# Altium footprint library Header.PcbLib: 112 footprints (part 5 of 7)
Each footprint in its own frame and in the unit in brackets; x right, y up, seen from the top. Pads: shape width x height; smd on the part's side, far side on the other; paste and mask are expansions set on the pad; w line width, h text height; cw(c..) or ccw(c..) is an arc to the next point about the centre after c.
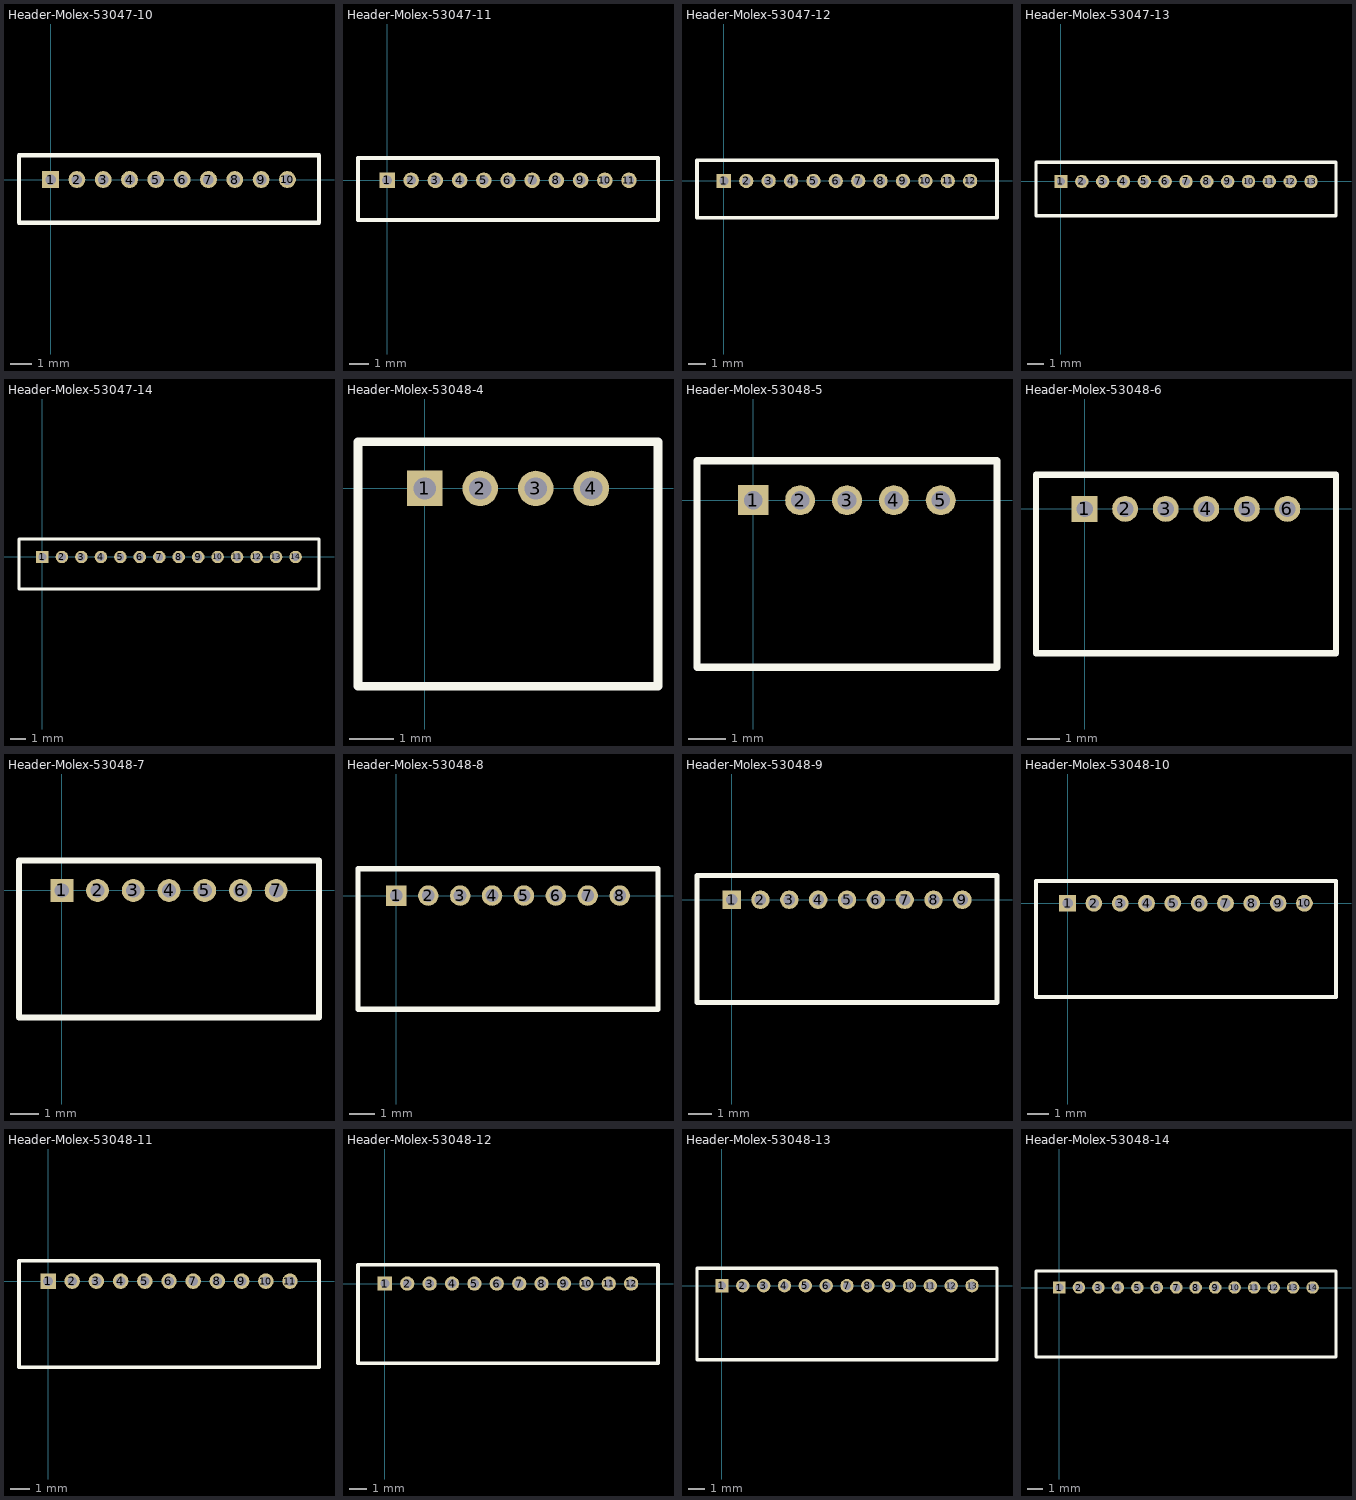
[diagram p4: the footprints below, top view; thin cyan lines are the x and y axes]

## Header-Molex-53047-10 [mm] "Molex PicoBlade 53047 Header, 10 Pin"
height 4.2
pads (10):
  rect 0.8x0.8 hole 0.5: 1(0,0)
  round 0.8 hole 0.5: 2(1.25,0) 3(2.5,0) 4(3.75,0) 5(5,0) 6(6.25,0) 7(7.5,0) 8(8.75,0) 9(10,0) 10(11.25,0)
Top Overlay:
  lines w0.2: -1.5,-2.05 12.75,-2.05 12.75,1.15 -1.5,1.15 -1.5,-2.05
3D body: height 3.6, standoff 0, extent 11.1,-0.3 11.4,0.3
3D body: height 1.4, standoff 0, extent -1.5,-2.05 12.75,1.15
3D body: height 4.2, standoff 0, extent -1.5,0.75 12.75,1.15
3D body: height 3.6, standoff 0, extent -1.5,-2.05 12.75,-1.65
3D body: height 4.2, standoff 0, extent -1.5,-2.05 -0.9,1.15
3D body: height 4.2, standoff 0, extent 12.15,-2.075 12.75,1.125
3D body: height 3.6, standoff 0, extent 9.85,-0.3 10.15,0.3
3D body: height 3.6, standoff 0, extent 8.6,-0.3 8.9,0.3
3D body: height 3.6, standoff 0, extent 7.35,-0.3 7.65,0.3
3D body: height 3.6, standoff 0, extent 6.1,-0.3 6.4,0.3
3D body: height 3.6, standoff 0, extent 4.85,-0.3 5.15,0.3
3D body: height 3.6, standoff 0, extent 3.6,-0.3 3.9,0.3
3D body: height 3.6, standoff 0, extent 2.35,-0.3 2.65,0.3
3D body: height 3.6, standoff 0, extent 1.1,-0.3 1.4,0.3
3D body: height 3.6, standoff 0, extent -0.15,-0.3 0.15,0.3

## Header-Molex-53047-11 [mm] "Molex PicoBlade 53047 Header, 11 Pin"
height 4.2
pads (11):
  rect 0.8x0.8 hole 0.5: 1(0,0)
  round 0.8 hole 0.5: 2(1.25,0) 3(2.5,0) 4(3.75,0) 5(5,0) 6(6.25,0) 7(7.5,0) 8(8.75,0) 9(10,0) 10(11.25,0) 11(12.5,0)
Top Overlay:
  lines w0.2: -1.5,-2.05 -1.5,1.15 14,1.15 14,-2.05 -1.5,-2.05
3D body: height 3.6, standoff 0, extent 12.35,-0.3 12.65,0.3
3D body: height 3.6, standoff 0, extent 11.1,-0.3 11.4,0.3
3D body: height 1.4, standoff 0, extent -1.5,-2.05 14,1.15
3D body: height 4.2, standoff 0, extent -1.5,0.75 14,1.15
3D body: height 3.6, standoff 0, extent -1.5,-2.05 14,-1.65
3D body: height 4.2, standoff 0, extent -1.5,-2.05 -0.9,1.15
3D body: height 4.2, standoff 0, extent 13.4,-2.075 14,1.125
3D body: height 3.6, standoff 0, extent 9.85,-0.3 10.15,0.3
3D body: height 3.6, standoff 0, extent 8.6,-0.3 8.9,0.3
3D body: height 3.6, standoff 0, extent 7.35,-0.3 7.65,0.3
3D body: height 3.6, standoff 0, extent 6.1,-0.3 6.4,0.3
3D body: height 3.6, standoff 0, extent 4.85,-0.3 5.15,0.3
3D body: height 3.6, standoff 0, extent 3.6,-0.3 3.9,0.3
3D body: height 3.6, standoff 0, extent 2.35,-0.3 2.65,0.3
3D body: height 3.6, standoff 0, extent 1.1,-0.3 1.4,0.3
3D body: height 3.6, standoff 0, extent -0.15,-0.3 0.15,0.3

## Header-Molex-53047-12 [mm] "Molex PicoBlade 53047 Header, 12 Pin"
height 4.2
pads (12):
  rect 0.8x0.8 hole 0.5: 1(0,0)
  round 0.8 hole 0.5: 2(1.25,0) 3(2.5,0) 4(3.75,0) 5(5,0) 6(6.25,0) 7(7.5,0) 8(8.75,0) 9(10,0) 10(11.25,0) 11(12.5,0) 12(13.75,0)
Top Overlay:
  lines w0.2: -1.5,-2.05 -1.5,1.15 15.25,1.15 15.25,-2.05 -1.5,-2.05
3D body: height 3.6, standoff 0, extent -0.15,-0.3 0.15,0.3
3D body: height 3.6, standoff 0, extent 1.1,-0.3 1.4,0.3
3D body: height 3.6, standoff 0, extent 2.35,-0.3 2.65,0.3
3D body: height 3.6, standoff 0, extent 3.6,-0.3 3.9,0.3
3D body: height 3.6, standoff 0, extent 4.85,-0.3 5.15,0.3
3D body: height 3.6, standoff 0, extent 6.1,-0.3 6.4,0.3
3D body: height 3.6, standoff 0, extent 7.35,-0.3 7.65,0.3
3D body: height 3.6, standoff 0, extent 8.6,-0.3 8.9,0.3
3D body: height 3.6, standoff 0, extent 9.85,-0.3 10.15,0.3
3D body: height 4.2, standoff 0, extent 14.65,-2.075 15.25,1.125
3D body: height 4.2, standoff 0, extent -1.5,-2.05 -0.9,1.15
3D body: height 3.6, standoff 0, extent -1.5,-2.05 15.25,-1.65
3D body: height 4.2, standoff 0, extent -1.5,0.75 15.25,1.15
3D body: height 1.4, standoff 0, extent -1.5,-2.05 15.25,1.15
3D body: height 3.6, standoff 0, extent 11.1,-0.3 11.4,0.3
3D body: height 3.6, standoff 0, extent 12.35,-0.3 12.65,0.3
3D body: height 3.6, standoff 0, extent 13.6,-0.3 13.9,0.3

## Header-Molex-53047-13 [mm] "Molex PicoBlade 53047 Header, 13 Pin"
height 4.2
pads (13):
  rect 0.8x0.8 hole 0.5: 1(0,0)
  round 0.8 hole 0.5: 2(1.25,0) 3(2.5,0) 4(3.75,0) 5(5,0) 6(6.25,0) 7(7.5,0) 8(8.75,0) 9(10,0) 10(11.25,0) 11(12.5,0) 12(13.75,0) 13(15,0)
Top Overlay:
  lines w0.2: -1.5,-2.05 16.5,-2.05 16.5,1.15 -1.5,1.15 -1.5,-2.05
3D body: height 3.6, standoff 0, extent -0.15,-0.3 0.15,0.3
3D body: height 3.6, standoff 0, extent 1.1,-0.3 1.4,0.3
3D body: height 3.6, standoff 0, extent 2.35,-0.3 2.65,0.3
3D body: height 3.6, standoff 0, extent 3.6,-0.3 3.9,0.3
3D body: height 3.6, standoff 0, extent 4.85,-0.3 5.15,0.3
3D body: height 3.6, standoff 0, extent 6.1,-0.3 6.4,0.3
3D body: height 3.6, standoff 0, extent 7.35,-0.3 7.65,0.3
3D body: height 3.6, standoff 0, extent 8.6,-0.3 8.9,0.3
3D body: height 3.6, standoff 0, extent 9.85,-0.3 10.15,0.3
3D body: height 4.2, standoff 0, extent 15.9,-2.075 16.5,1.125
3D body: height 4.2, standoff 0, extent -1.5,-2.05 -0.9,1.15
3D body: height 3.6, standoff 0, extent -1.5,-2.05 16.5,-1.65
3D body: height 4.2, standoff 0, extent -1.5,0.75 16.5,1.15
3D body: height 1.4, standoff 0, extent -1.5,-2.05 16.5,1.15
3D body: height 3.6, standoff 0, extent 11.1,-0.3 11.4,0.3
3D body: height 3.6, standoff 0, extent 12.35,-0.3 12.65,0.3
3D body: height 3.6, standoff 0, extent 13.6,-0.3 13.9,0.3
3D body: height 3.6, standoff 0, extent 14.85,-0.3 15.15,0.3

## Header-Molex-53047-14 [mm] "Molex PicoBlade 53047 Header, 14 Pin"
height 4.2
pads (14):
  rect 0.8x0.8 hole 0.5: 1(0,0)
  round 0.8 hole 0.5: 2(1.25,0) 3(2.5,0) 4(3.75,0) 5(5,0) 6(6.25,0) 7(7.5,0) 8(8.75,0) 9(10,0) 10(11.25,0) 11(12.5,0) 12(13.75,0) 13(15,0) 14(16.25,0)
Top Overlay:
  lines w0.2: -1.5,-2.05 -1.5,1.15 17.75,1.15 17.75,-2.05 -1.5,-2.05
3D body: height 3.6, standoff 0, extent 16.1,-0.3 16.4,0.3
3D body: height 3.6, standoff 0, extent 14.85,-0.3 15.15,0.3
3D body: height 3.6, standoff 0, extent 13.6,-0.3 13.9,0.3
3D body: height 3.6, standoff 0, extent 12.35,-0.3 12.65,0.3
3D body: height 3.6, standoff 0, extent 11.1,-0.3 11.4,0.3
3D body: height 3.6, standoff 0, extent -0.15,-0.3 0.15,0.3
3D body: height 3.6, standoff 0, extent 1.1,-0.3 1.4,0.3
3D body: height 3.6, standoff 0, extent 2.35,-0.3 2.65,0.3
3D body: height 3.6, standoff 0, extent 3.6,-0.3 3.9,0.3
3D body: height 3.6, standoff 0, extent 4.85,-0.3 5.15,0.3
3D body: height 3.6, standoff 0, extent 6.1,-0.3 6.4,0.3
3D body: height 3.6, standoff 0, extent 7.35,-0.3 7.65,0.3
3D body: height 3.6, standoff 0, extent 8.6,-0.3 8.9,0.3
3D body: height 3.6, standoff 0, extent 9.85,-0.3 10.15,0.3
3D body: height 4.2, standoff 0, extent 17.15,-2.075 17.75,1.125
3D body: height 4.2, standoff 0, extent -1.5,-2.05 -0.9,1.15
3D body: height 3.6, standoff 0, extent -1.5,-2.05 17.75,-1.65
3D body: height 4.2, standoff 0, extent -1.5,0.75 17.75,1.15
3D body: height 1.4, standoff 0, extent -1.5,-2.05 17.75,1.15

## Header-Molex-53048-4 [mm] "Molex PicoBlade 53048 Header, 4 Pin, Right Angle"
height 4.2
pads (4):
  rect 0.8x0.8 hole 0.5: 1(0,0)
  round 0.8 hole 0.5: 2(1.25,0) 3(2.5,0) 4(3.75,0)
Top Overlay:
  lines w0.2: -1.5,-4.45 5.25,-4.45 5.25,1.05 -1.5,1.05 -1.5,-4.45

## Header-Molex-53048-5 [mm] "Molex PicoBlade 53048 Header, 5 Pin, Right Angle"
height 4.2
pads (5):
  rect 0.8x0.8 hole 0.5: 1(0,0)
  round 0.8 hole 0.5: 2(1.25,0) 3(2.5,0) 4(3.75,0) 5(5,0)
Top Overlay:
  lines w0.2: -1.5,-4.45 -1.5,1.05 6.5,1.05 6.5,-4.45 -1.5,-4.45

## Header-Molex-53048-6 [mm] "Molex PicoBlade 53048 Header, 6 Pin, Right Angle"
height 4.2
pads (6):
  rect 0.8x0.8 hole 0.5: 1(0,0)
  round 0.8 hole 0.5: 2(1.25,0) 3(2.5,0) 4(3.75,0) 5(5,0) 6(6.25,0)
Top Overlay:
  lines w0.2: -1.5,-4.45 -1.5,1.05 7.75,1.05 7.75,-4.45 -1.5,-4.45

## Header-Molex-53048-7 [mm] "Molex PicoBlade 53048 Header, 7 Pin, Right Angle"
height 4.2
pads (7):
  rect 0.8x0.8 hole 0.5: 1(0,0)
  round 0.8 hole 0.5: 2(1.25,0) 3(2.5,0) 4(3.75,0) 5(5,0) 6(6.25,0) 7(7.5,0)
Top Overlay:
  lines w0.2: -1.5,-4.45 9,-4.45 9,1.05 -1.5,1.05 -1.5,-4.45

## Header-Molex-53048-8 [mm] "Molex PicoBlade 53048 Header, 8 Pin, Right Angle"
height 4.2
pads (8):
  rect 0.8x0.8 hole 0.5: 1(0,0)
  round 0.8 hole 0.5: 2(1.25,0) 3(2.5,0) 4(3.75,0) 5(5,0) 6(6.25,0) 7(7.5,0) 8(8.75,0)
Top Overlay:
  lines w0.2: -1.5,-4.45 10.25,-4.45 10.25,1.05 -1.5,1.05 -1.5,-4.45

## Header-Molex-53048-9 [mm] "Molex PicoBlade 53048 Header, 9 Pin, Right Angle"
height 4.2
pads (9):
  rect 0.8x0.8 hole 0.5: 1(0,0)
  round 0.8 hole 0.5: 2(1.25,0) 3(2.5,0) 4(3.75,0) 5(5,0) 6(6.25,0) 7(7.5,0) 8(8.75,0) 9(10,0)
Top Overlay:
  lines w0.2: -1.5,-4.45 11.5,-4.45 11.5,1.05 -1.5,1.05 -1.5,-4.45

## Header-Molex-53048-10 [mm] "Molex PicoBlade 53048 Header, 10 Pin, Right Angle"
height 4.2
pads (10):
  rect 0.8x0.8 hole 0.5: 1(0,0)
  round 0.8 hole 0.5: 2(1.25,0) 3(2.5,0) 4(3.75,0) 5(5,0) 6(6.25,0) 7(7.5,0) 8(8.75,0) 9(10,0) 10(11.25,0)
Top Overlay:
  lines w0.2: -1.5,-4.45 12.75,-4.45 12.75,1.05 -1.5,1.05 -1.5,-4.45

## Header-Molex-53048-11 [mm] "Molex PicoBlade 53048 Header, 11 Pin, Right Angle"
height 4.2
pads (11):
  rect 0.8x0.8 hole 0.5: 1(0,0)
  round 0.8 hole 0.5: 2(1.25,0) 3(2.5,0) 4(3.75,0) 5(5,0) 6(6.25,0) 7(7.5,0) 8(8.75,0) 9(10,0) 10(11.25,0) 11(12.5,0)
Top Overlay:
  lines w0.2: -1.5,-4.45 14,-4.45 14,1.05 -1.5,1.05 -1.5,-4.45

## Header-Molex-53048-12 [mm] "Molex PicoBlade 53048 Header, 12 Pin, Right Angle"
height 4.2
pads (12):
  rect 0.8x0.8 hole 0.5: 1(0,0)
  round 0.8 hole 0.5: 2(1.25,0) 3(2.5,0) 4(3.75,0) 5(5,0) 6(6.25,0) 7(7.5,0) 8(8.75,0) 9(10,0) 10(11.25,0) 11(12.5,0) 12(13.75,0)
Top Overlay:
  lines w0.2: -1.5,-4.45 -1.5,1.05 15.25,1.05 15.25,-4.45 -1.5,-4.45

## Header-Molex-53048-13 [mm] "Molex PicoBlade 53048 Header, 13 Pin, Right Angle"
height 4.2
pads (13):
  rect 0.8x0.8 hole 0.5: 1(0,0)
  round 0.8 hole 0.5: 2(1.25,0) 3(2.5,0) 4(3.75,0) 5(5,0) 6(6.25,0) 7(7.5,0) 8(8.75,0) 9(10,0) 10(11.25,0) 11(12.5,0) 12(13.75,0) 13(15,0)
Top Overlay:
  lines w0.2: -1.5,-4.45 16.5,-4.45 16.5,1.05 -1.5,1.05 -1.5,-4.45

## Header-Molex-53048-14 [mm] "Molex PicoBlade 53048 Header, 14 Pin, Right Angle"
height 4.2
pads (14):
  rect 0.8x0.8 hole 0.5: 1(0,0)
  round 0.8 hole 0.5: 2(1.25,0) 3(2.5,0) 4(3.75,0) 5(5,0) 6(6.25,0) 7(7.5,0) 8(8.75,0) 9(10,0) 10(11.25,0) 11(12.5,0) 12(13.75,0) 13(15,0) 14(16.25,0)
Top Overlay:
  lines w0.2: -1.5,-4.45 17.75,-4.45 17.75,1.05 -1.5,1.05 -1.5,-4.45